# Altium footprint library Sensor_Current.PcbLib: 35 footprints (part 3 of 3)
Each footprint in its own frame and in the unit in brackets; x right, y up, seen from the top. Pads: shape width x height; smd on the part's side, far side on the other; paste and mask are expansions set on the pad; w line width, h text height; cw(c..) or ccw(c..) is an arc to the next point about the centre after c.
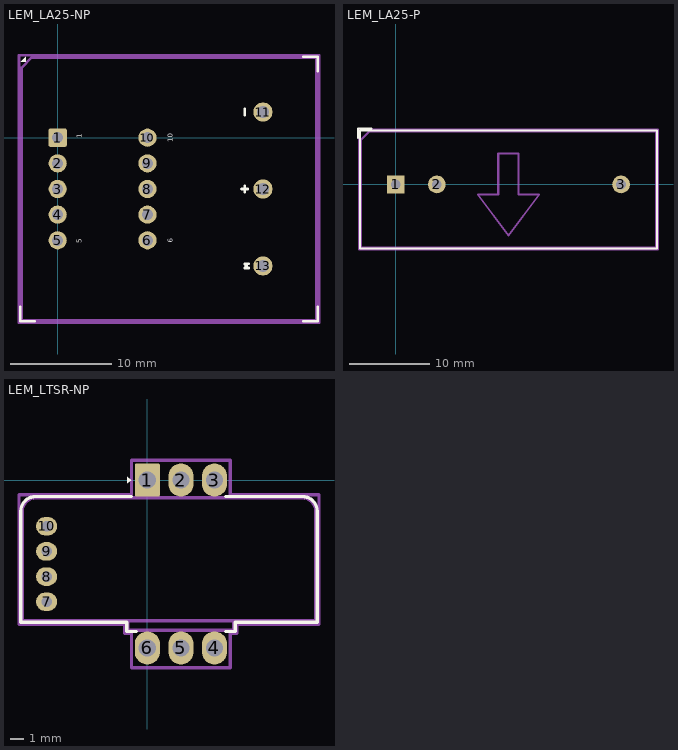
[diagram p2: the footprints below, top view; thin cyan lines are the x and y axes]

## LEM_LA25-NP [mm]
pads (13):
  rrect16% 1.8x1.8 hole 1.1: 1(0,0)
  round 1.8 hole 1.1: 2(0,-2.54) 3(0,-5.08) 4(0,-7.62) 5(0,-10.16) 6(8.89,-10.16) 7(8.89,-7.62) 8(8.89,-5.08) 9(8.89,-2.54) 10(8.89,0)
  round 1.9 hole 1.2: 11(20.32,2.54) 12(20.32,-5.08) 13(20.32,-12.7)
F.SilkS:
  region: -3.18,7.52 -3.66,7.52 -3.18,8
  lines w0.254: -3.69,-16.76 -3.69,-18.19 -2.26,-18.19 ; 18.2,-5.08 18.8,-5.08 ; 18.5,-5.38 18.5,-4.78 ; 18.5,2.24 18.5,2.84 ; 18.9,-12.9 18.5,-12.9 18.7,-12.7 18.5,-12.5 18.9,-12.5 ; 24.3,-18.19 25.73,-18.19 25.73,-16.76 ; 24.3,8.03 25.73,8.03 25.73,6.6
  text "10" at 11.37,-0.44 h0.5
  text "5" at 2.37,-10.443 h0.5
  text "6" at 11.37,-10.419 h0.5
  text "1" at 2.37,-0.069 h0.5
F.Fab:
  lines w0.254: -3.58,-18.08 -3.58,6.92 -2.58,7.92 25.62,7.92 25.62,-18.08 -3.58,-18.08
  text "'.Designator'" at 7.203,-5.92 h1
F.CrtYd:
  lines w0.254: -3.83,-18.33 -3.83,8.17 25.87,8.17 25.87,-18.33 -3.83,-18.33
3D body "LEM_LA25-NP.step": height 15.31, standoff -4.49, extent -3.58,-18.08 25.62,7.92

## LEM_LA25-P [mm]
pads (3):
  rect 2.2x2.2 hole 1.2: 1(0,0)
  round 2.2 hole 1.2: 2(5.08,0) 3(27.94,0)
F.SilkS:
  lines w0.254: -4.7,5.75 -4.7,6.92 -3,6.92 ; -4.45,-7.92 -4.45,6.67 32.39,6.67 32.39,-7.92 -4.45,-7.92
F.Fab:
  lines w0.254: -4.33,-7.8 -4.33,5.55 -3.33,6.55 32.27,6.55 32.27,-7.8 -4.33,-7.8 ; 10.16,-1.25 13.97,-6.33 17.78,-1.25 15.24,-1.25 15.24,3.83 12.7,3.83 12.7,-1.25 10.16,-1.25
  text "'.Designator'" at 18.953,0.16 h1
F.CrtYd:
  lines w0.254: -4.58,-8.05 -4.58,6.8 32.52,6.8 32.52,-8.05 -4.58,-8.05
3D body "LEM_LA25-P.step": height 27.2, standoff -4.5, extent -4.28,-7.9 32.22,6.55

## LEM_LTSR-NP [mm]
pads (10):
  rrect12% 1.9x2.5 hole 1.3: 1(0,0)
  rrect100% 1.9x2.5 hole 1.3: 2(2.54,0) 3(5.08,0) 4(5.08,-12.7) 5(2.54,-12.7) 6(0,-12.7)
  rrect100% 1.6x1.4 hole 0.8: 7(-7.62,-9.207) 8(-7.62,-7.302) 9(-7.62,-5.397) 10(-7.62,-3.492)
F.SilkS:
  region: -1.2,0 -1.53,-0.24 -1.53,0.24
  lines w0.254: -9.57,-2.36 -9.57,-10.76 -1.57,-10.76 -1.57,-11.46 -0.85,-11.46 ; -9.57,-2.35 cw(c-8.46,-2.35) -8.46,-1.24 ; -8.45,-1.24 -1.22,-1.24 ; 5.92,-11.46 6.65,-11.46 6.65,-10.76 12.85,-10.76 12.85,-2.35 ccw(c11.74,-2.35) 11.74,-1.24 5.93,-1.24
F.Fab:
  lines w0.254: -1.46,-10.65 -1.46,-11.35 6.54,-11.35 6.54,-10.65 ; -9.46,-10.65 -9.46,-2.35 cw(c-8.46,-2.35) -8.46,-1.35 11.74,-1.35 cw(c11.74,-2.35) 12.74,-2.35 12.74,-10.65 -9.46,-10.65
  text "'.Designator'" at -1.507,-5.29 h1
F.CrtYd:
  lines w0.254: -9.71,-10.9 -9.71,-1.1 -1.2,-1.1 -1.2,1.5 6.28,1.5 6.28,-1.1 12.99,-1.1 12.99,-10.9 6.79,-10.9 6.79,-11.6 6.28,-11.6 6.28,-14.2 -1.2,-14.2 -1.2,-11.6 -1.71,-11.6 -1.71,-10.9 -9.71,-10.9
3D body "LEM_LTSR-NP.step": height 24, standoff -3.5, extent -9.45,-13.14 12.75,0.36